# Altium footprint library AM32_ESC.PcbLib: 17 footprints (part 1 of 2)
Each footprint in its own frame and in the unit in brackets; x right, y up, seen from the top. Pads: shape width x height; smd on the part's side, far side on the other; paste and mask are expansions set on the pad; w line width, h text height; cw(c..) or ccw(c..) is an arc to the next point about the centre after c.
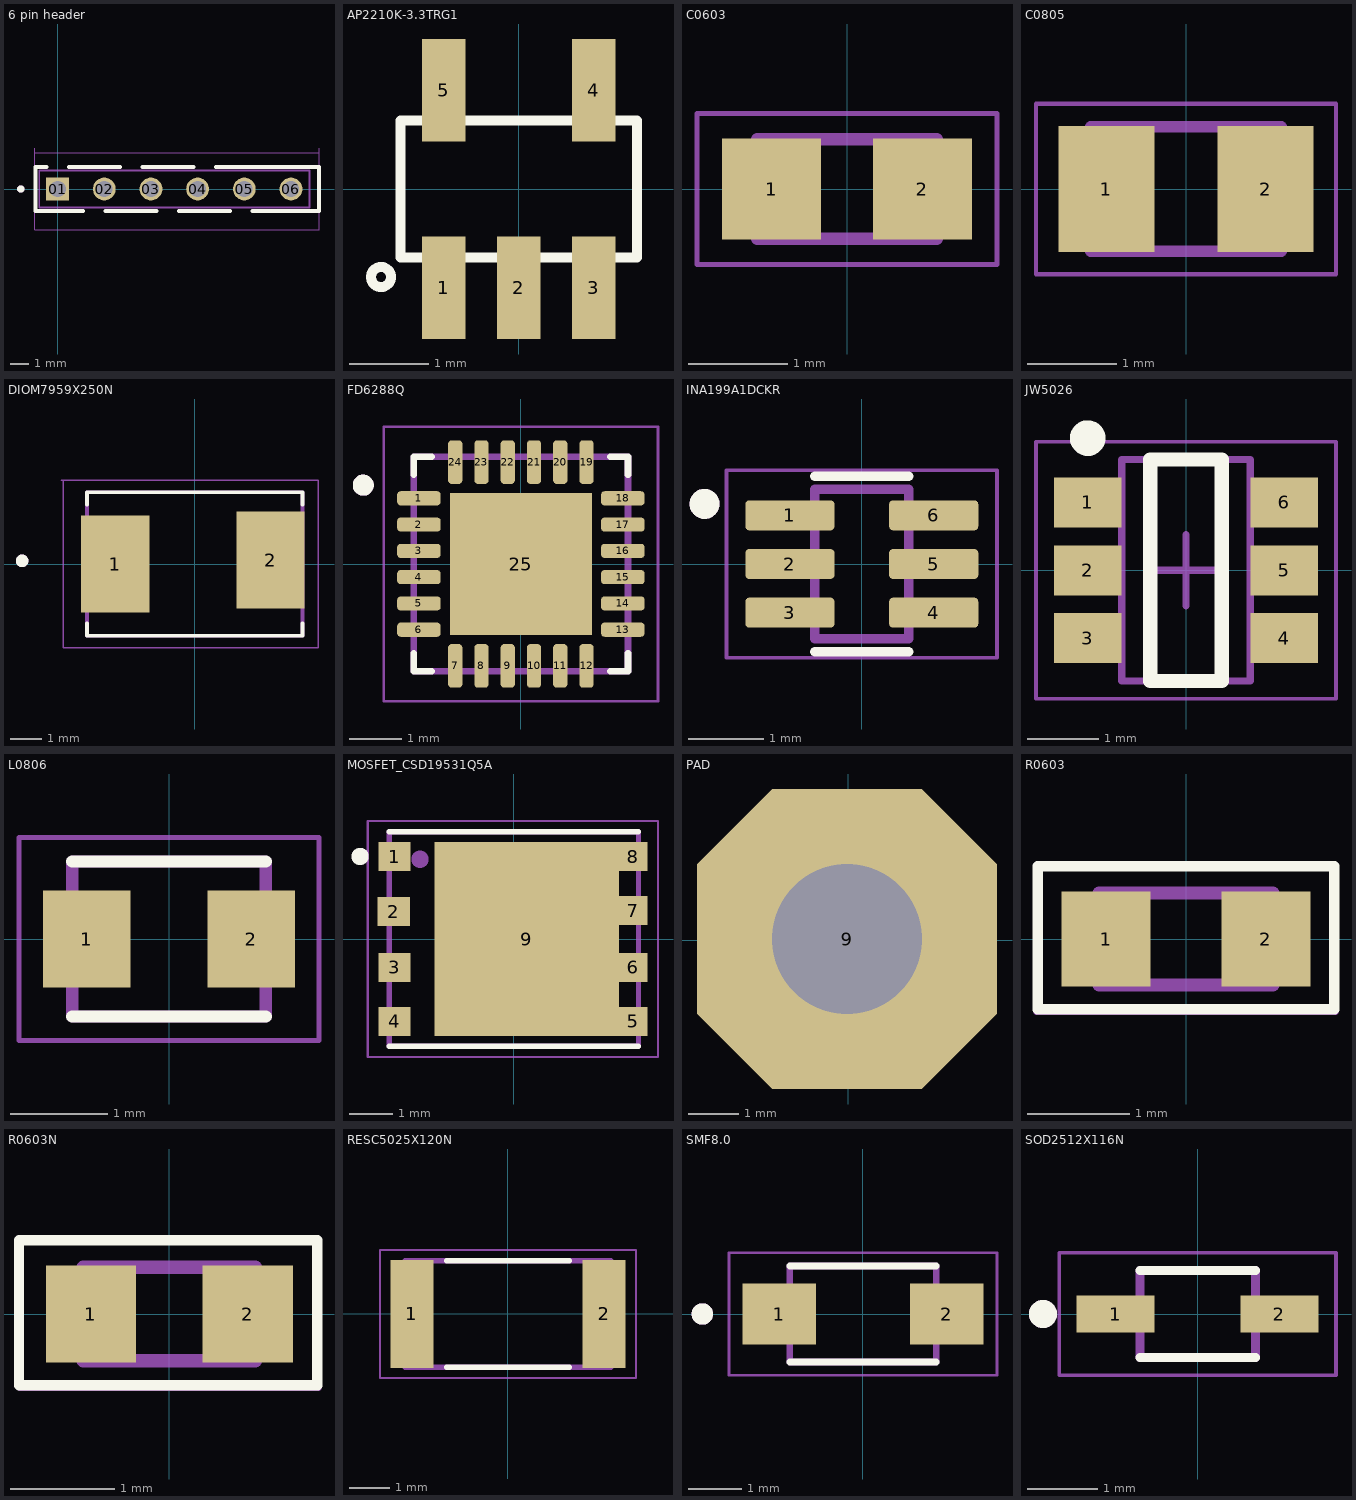
[diagram p0: the footprints below, top view; thin cyan lines are the x and y axes]

## 6 pin header [mm]
pads (6):
  rect 1.24x1.24 hole 0.89: 01(0,0)
  round 1.24 hole 0.89: 02(2.54,0) 03(5.08,0) 04(7.62,0) 05(10.16,0) 06(12.7,0)
Top Overlay:
  circle w0.2: c-2,0 r0.1
  lines w0.2: -0.605,1.2 -1.2,1.2 -1.2,-1.2 1.395,-1.2 0.605,-1.2 ; 0.605,1.2 3.395,1.2 2.605,1.2 ; 2.605,-1.2 5.395,-1.2 4.605,-1.2 ; 4.605,1.2 7.395,1.2 6.605,1.2 ; 6.605,-1.2 9.395,-1.2 ; 8.605,-1.2 9.2,-1.2 ; 8.605,1.2 14.224,1.2 14.224,-1.2 10.605,-1.2 ; 10.605,1.2 11.2,1.2
Mechanical 13:
  circle w0.2: c-2,0 r0.1
  lines w0.1: -1,-1 -1,1 13.716,1 13.716,-1 -1,-1
Mechanical 15:
  lines w0.05: -1.25,1.966 14.224,1.966 ; -1.25,2.22 -1.25,-2.22 14.224,-2.22 14.224,2.22
3D body "B6B-XH-A (LF)(SN)--3DModel-STEP-510211.STEP": height 6.51, standoff -3.89, extent -2.35,-3.429 15.05,2.321

## AP2210K-3.3TRG1 [mm]
pads (5):
  rect 0.55x1.3 smd: 1(-0.95,-1.25) 2(0,-1.25) 3(0.95,-1.25) 4(0.95,1.25) 5(-0.95,1.25)
Top Overlay:
  circle w0.127: c-1.745,-1.115 r0.127
  lines w0.127: -1.5,-0.87 1.5,-0.87 1.5,0.87 -1.5,0.87 -1.5,-0.87
3D body "step_temp.STEP": height 1.45, standoff 0, extent -1.46,-1.4 1.46,1.4

## C0603 [mm]
pads (2):
  rect 1x1.02 smd: 1(-0.759,0) 2(0.759,0)
Mechanical 13:
  lines w0.127: -0.9,-0.5 -0.9,0.5 0.9,0.5 0.9,-0.5 -0.9,-0.5
Mechanical 15:
  lines w0.05: -1.508,-0.758 -1.508,0.758 1.508,0.758 1.508,-0.758 -1.508,-0.758
3D body "step_temp.STEP": height 1, standoff 0, extent -0.8,-0.4 0.8,0.4

## C0805 [mm]
pads (2):
  rect 1.08x1.42 smd: 1(-0.895,0) 2(0.895,0)
Mechanical 13:
  lines w0.127: -1.07,-0.7 1.07,-0.7 1.07,0.7 -1.07,0.7 -1.07,-0.7
Mechanical 15:
  lines w0.05: -1.685,-0.96 1.685,-0.96 1.685,0.96 -1.685,0.96 -1.685,-0.96
3D body "step_temp.STEP": height 1.4, standoff 0, extent -1,-0.625 1,0.625

## DIOM7959X250N [mm]
pads (2):
  rect 2.18x3.09 smd: 1(-2.54,0) 2(2.413,0.127)
Top Overlay:
  circle w0.2: c-5.5,0.1 r0.1
  lines w0.127: -3.427,-1.9 -3.427,-2.286 3.427,-2.286 3.427,-1.9 ; -3.427,1.9 -3.427,2.286 3.427,2.286 3.427,1.9
Mechanical 13:
  circle w0.2: c-5.5,0.1 r0.1
  lines w0.127: -3.427,-2.286 3.427,-2.286 3.427,2.286 -3.427,2.286 -3.427,-2.286
Mechanical 15:
  lines w0.05: -4.257,2.667 -2.001,2.667 2.509,2.667 3.937,2.667 3.937,-2.667 -4.191,-2.667 -4.191,2.667
3D body "SMCJ16A-13-F.STEP": height 2.51, standoff 0.01, extent -2.692,-1.683 2.603,1.937

## FD6288Q [mm]
pads (25):
  rrect50% 0.83x0.27 smd: 1(-1.94,1.25) 2(-1.94,0.75) 3(-1.94,0.25) 4(-1.94,-0.25) 5(-1.94,-0.75) 6(-1.94,-1.25) 13(1.94,-1.25) 14(1.94,-0.75) 15(1.94,-0.25) 16(1.94,0.25) 17(1.94,0.75) 18(1.94,1.25)
  rrect50% 0.27x0.83 smd: 7(-1.25,-1.94) 8(-0.75,-1.94) 9(-0.25,-1.94) 10(0.25,-1.94) 11(0.75,-1.94) 12(1.25,-1.94) 19(1.25,1.94) 20(0.75,1.94) 21(0.25,1.94) 22(-0.25,1.94) 23(-0.75,1.94) 24(-1.25,1.94)
  rect 2.7x2.7 smd paste-2: 25(0,0)
Top Overlay:
  circle w0.2: c-3,1.5 r0.1
  lines w0.127: -2.04,-1.7 -2.04,-2.04 -1.7,-2.04 ; -2.04,1.7 -2.04,2.04 -1.7,2.04 ; 1.7,-2.04 2.04,-2.04 2.04,-1.7 ; 1.7,2.04 2.04,2.04 2.04,1.7
Top Paste:
  region: -0.13,0.13 -1.09,0.13 -1.09,1.09 -0.13,1.09
  region: 1.09,0.13 0.13,0.13 0.13,1.09 1.09,1.09
  region: -0.13,-1.09 -1.09,-1.09 -1.09,-0.13 -0.13,-0.13
  region: 1.09,-1.09 0.13,-1.09 0.13,-0.13 1.09,-0.13
Mechanical 13:
  circle w0.2: c-3,1.5 r0.1
  lines w0.127: -2.04,-2.04 2.04,-2.04 2.04,2.04 -2.04,2.04 -2.04,-2.04
Mechanical 15:
  lines w0.05: -2.61,-2.61 2.61,-2.61 2.61,2.61 -2.61,2.61 -2.61,-2.61
3D body "step_temp.STEP": height 0.9, standoff 0, extent -2,-2 2,2

## INA199A1DCKR [mm]
pads (6):
  rrect25% 1.19x0.4 smd: 1(-0.96,0.65) 2(-0.96,0) 3(-0.96,-0.65) 4(0.96,-0.65) 5(0.96,0) 6(0.96,0.65)
Top Overlay:
  circle w0.2: c-2.1,0.802 r0.1
  lines w0.127: -0.625,-1.17 0.625,-1.17 ; -0.625,1.17 0.625,1.17
Mechanical 13:
  circle w0.2: c-2.1,0.802 r0.1
  lines w0.127: -0.625,-1 0.625,-1 0.625,1 -0.625,1 -0.625,-1
Mechanical 15:
  lines w0.05: -1.805,-1.25 1.805,-1.25 1.805,1.25 -1.805,1.25 -1.805,-1.25
3D body "step_temp.STEP": height 1.1, standoff 0, extent -1.05,-1 1.05,1

## JW5026 [mm] "SOT23, 6-Leads, Body 2.91x2.80mm, Pitch 0.95mm, IPC Medium Density"
height 1.25
pads (6):
  rect 0.95x0.7 smd: 1(-1.375,0.95) 2(-1.375,0) 3(-1.375,-0.95) 4(1.375,-0.95) 5(1.375,0) 6(1.375,0.95)
Top Overlay:
  circle w0.25: c-1.375,1.85 r0.125
  lines w0.2: -0.5,-1.55 0.5,-1.55 0.5,1.55 -0.5,1.55 -0.5,-1.55
Mechanical 13:
  lines w0.1: -0.9,-1.55 -0.9,1.55 0.9,1.55 0.9,-1.55 -0.9,-1.55
Mechanical 15:
  lines w0.05: -2.1,-1.8 -2.1,1.8 2.1,1.8 2.1,-1.8 -2.1,-1.8
  lines w0.1: -0.5,0 0.5,0 ; 0,-0.5 0,0.5
3D body "JW5026.step": height 1.25, standoff 0, extent -1.5,-1.55 1.5,1.55

## L0806 [mm]
pads (2):
  rect 0.9x1 smd: 1(-0.85,0) 2(0.85,0)
Top Overlay:
  lines w0.127: -1,-0.8 1,-0.8 ; -1,0.8 1,0.8
Mechanical 13:
  lines w0.127: -1,-0.8 -1,0.8 1,0.8 1,-0.8 -1,-0.8
Mechanical 15:
  lines w0.05: -1.55,-1.05 -1.55,1.05 1.55,1.05 1.55,-1.05 -1.55,-1.05
3D body "LQH2MPN6R8MGRL.STEP": height 0.92, standoff -0.03, extent -1,-0.749 1,0.851

## MOSFET_CSD19531Q5A [mm]
pads (9):
  rect 0.75x0.675 smd paste-1: 1(-2.776,1.917) 2(-2.794,0.635) 3(-2.776,-0.66) 4(-2.776,-1.917)
  rect 0.655x0.675 smd paste-1: 5(2.776,-1.917) 6(2.776,-0.66) 7(2.776,0.66) 8(2.776,1.917)
  rect 4.295x4.51 smd paste-3: 9(0.301,0)
Top Overlay:
  circle w0.3: c-3.578,1.921 r0.05
  lines w0.127: -2.9,-2.5 2.9,-2.5 ; -2.9,2.5 2.9,2.5
Top Paste:
  region: -2.526,-2.171 -3.031,-2.171 -3.031,-1.667 -2.526,-1.667
  region: -2.526,-0.91 -3.026,-0.91 -3.026,-0.41 -2.526,-0.41
  region: -2.526,0.41 -3.027,0.41 -3.027,0.91 -2.526,0.91
  region: -2.526,1.67 -3.03,1.67 -3.03,2.167 -2.526,2.167
  region: 3.026,-2.172 2.531,-2.172 2.531,-1.667 3.026,-1.667
  region: 3.026,-0.91 2.528,-0.91 2.528,-0.41 3.026,-0.41
  region: 3.026,0.41 2.528,0.41 2.528,0.91 3.026,0.91
  region: 3.026,1.668 2.527,1.668 2.527,2.167 3.026,2.167
  region: 1.911,-1.882 0.327,-1.882 0.327,-0.31 1.911,-0.31
  region: -0.174,-1.883 -1.411,-1.883 -1.411,-0.31 -0.174,-0.31
  region: 1.911,0.31 0.327,0.31 0.327,1.88 1.911,1.88
  region: -0.174,0.31 -1.409,0.31 -1.409,1.88 -0.174,1.88
Mechanical 13:
  circle w0.3: c-2.186,1.855 r0.05
  lines w0.127: -2.9,-2.5 2.9,-2.5 2.9,2.5 -2.9,2.5 -2.9,-2.5
Mechanical 15:
  lines w0.05: -3.401,-2.75 3.354,-2.75 3.354,2.75 -3.401,2.75 -3.401,-2.75
3D body "CSD17310Q5A.STEP": height 1.11, standoff 0.01, extent -3,-2.36 3,2.54

## PAD [mm]
pads (1):
  oct 6x6 hole 3: 9(-0.025,0.025)

## R0603 [mm]
pads (2):
  rect 0.87x0.93 smd: 1(-0.78,0) 2(0.78,0)
Top Overlay:
  lines w0.1: -1.448,-0.686 1.448,-0.686 1.448,0.711 -1.448,0.711 -1.448,-0.686
Mechanical 13:
  lines w0.127: -0.85,-0.45 -0.85,0.45 0.85,0.45 0.85,-0.45 -0.85,-0.45
Mechanical 15:
  lines w0.05: -1.465,-0.715 -1.465,0.715 1.465,0.715 1.465,-0.715 -1.465,-0.715
3D body "step_temp.STEP": height 0.55, standoff 0, extent -0.8,-0.4 0.8,0.4

## R0603N [mm]
pads (2):
  rect 0.87x0.93 smd: 1(-0.755,0) 2(0.755,0)
Top Overlay:
  lines w0.1: -1.448,-0.686 -1.448,0.711 1.422,0.711 1.422,-0.686 -1.448,-0.686
Mechanical 13:
  lines w0.127: -0.83,-0.45 -0.83,0.45 0.83,0.45 0.83,-0.45 -0.83,-0.45
Mechanical 15:
  lines w0.05: -1.44,-0.715 -1.44,0.715 1.44,0.715 1.44,-0.715 -1.44,-0.715
3D body "step_temp.STEP": height 0.55, standoff 0, extent -0.775,-0.4 0.775,0.4

## RESC5025X120N [mm]
pads (2):
  rect 1.07x2.67 smd: 1(-2.38,0) 2(2.38,0)
Top Overlay:
  lines w0.127: -1.52,-1.32 1.52,-1.32 ; -1.52,1.32 1.52,1.32
Mechanical 13:
  lines w0.127: -2.55,-1.32 2.55,-1.32 2.55,1.32 -2.55,1.32 -2.55,-1.32
Mechanical 15:
  lines w0.05: -3.165,-1.585 3.165,-1.585 3.165,1.585 -3.165,1.585 -3.165,-1.585
3D body "step_temp.STEP": height 1.2, standoff 0, extent -2.5,-1.25 2.5,1.25

## SMF8.0 [mm]
pads (2):
  rect 1.38x1.15 smd: 1(-1.575,0) 2(1.575,0)
Top Overlay:
  circle w0.2: c-3.015,0 r0.1
  lines w0.127: -1.375,-0.895 -1.375,-0.9 1.375,-0.9 1.375,-0.895 ; -1.375,0.895 -1.375,0.9 1.375,0.9 1.375,0.895
Mechanical 13:
  circle w0.2: c-3.015,0 r0.1
  lines w0.127: -1.375,-0.9 1.375,-0.9 1.375,0.9 -1.375,0.9 -1.375,-0.9
Mechanical 15:
  lines w0.05: -2.515,-1.15 2.515,-1.15 2.515,1.15 -2.515,1.15 -2.515,-1.15
3D body "step_temp.STEP": height 1.26, standoff -0.04, extent -1.958,-0.881 1.742,0.919

## SOD2512X116N [mm]
height 1.16
pads (2):
  rect 1.11x0.52 smd: 1(-1.165,0) 2(1.165,0)
Top Overlay:
  circle w0.2: c-2.2,0 r0.1
  lines w0.127: -0.823,-0.62 0.823,-0.62 ; -0.823,0.62 0.823,0.62
Mechanical 13:
  circle w0.2: c-2.2,0 r0.1
  lines w0.127: -0.823,-0.62 0.823,-0.62 0.823,0.62 -0.823,0.62 -0.823,-0.62
Mechanical 15:
  lines w0.05: -1.97,-0.87 1.97,-0.87 1.97,0.87 -1.97,0.87 -1.97,-0.87
3D body "step_temp.STEP": height 1.2, standoff 0, extent -1.25,-0.65 1.25,0.65